# Altium footprint library Logos.PcbLib: 3 footprints
Each footprint in its own frame and in the unit in brackets; x right, y up, seen from the top. Pads: shape width x height; smd on the part's side, far side on the other; paste and mask are expansions set on the pad; w line width, h text height; cw(c..) or ccw(c..) is an arc to the next point about the centre after c.
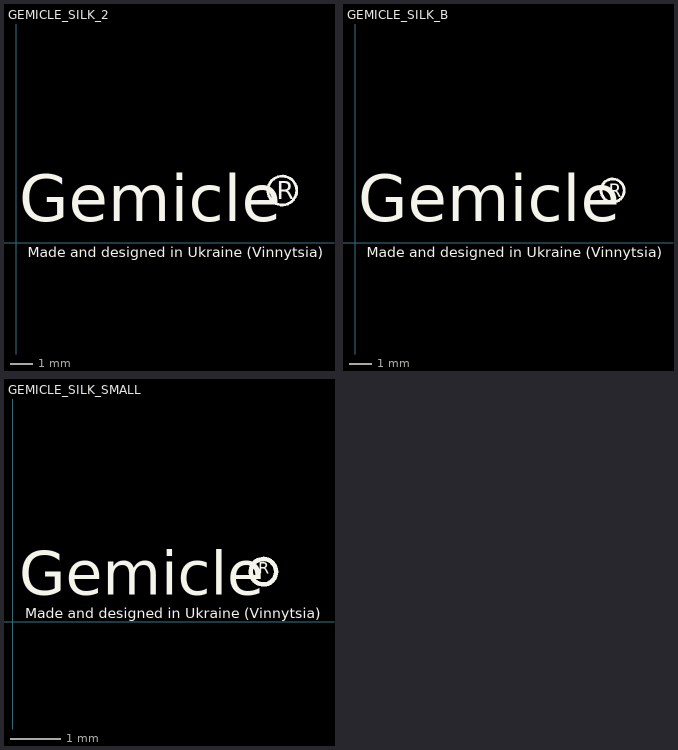
[diagram p0: the footprints below, top view; thin cyan lines are the x and y axes]

## GEMICLE_SILK_2 [mm]
Top Overlay:
  circle w0.12: c11.684,2.286 r0.635
  text "R" at 11.43,1.905 h0.8
  text "Made and designed in Ukraine (Vinnytsia)" at 0.508,-0.635 h0.45
  text "Gemicle" at 0.127,0.254 h3.5

## GEMICLE_SILK_B [mm]
Top Overlay:
  circle w0.12: c11.303,2.286 r0.508
  text "R" at 11.125,2 h0.6
  text "Made and designed in Ukraine (Vinnytsia)" at 0.508,-0.635 h0.45
  text "Gemicle" at 0.127,0.254 h3.5

## GEMICLE_SILK_SMALL [mm]
Top Overlay:
  circle w0.09: c5,1 r0.254
  text "R" at 4.9,0.875 h0.4
  text "Made and designed in Ukraine (Vinnytsia)" at 0.254,0 h0.35
  text "Gemicle" at 0.127,0.254 h1.5